# Altium schematic symbol library cp2130_f01_gm.SchLib: 1 symbol
Pins are listed as number, name and electrical type; pins without a type are passive.

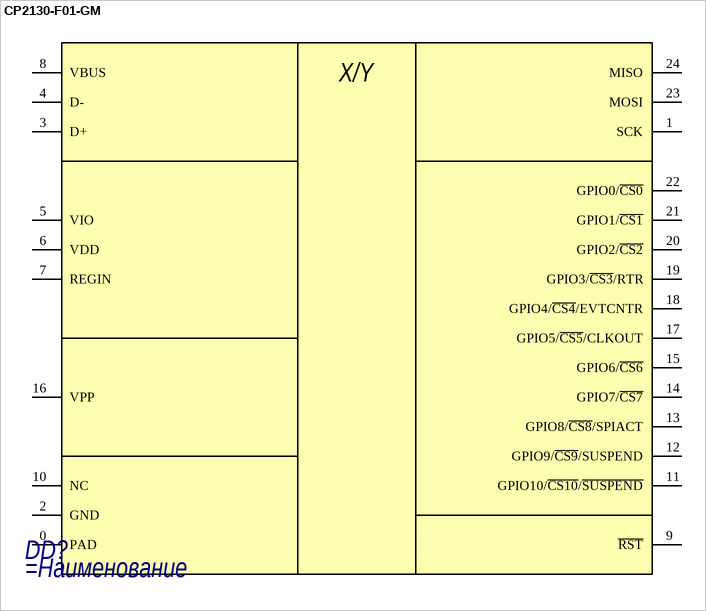
[diagram p0: symbol CP2130-F01-GM]

## CP2130-F01-GM
designator DD?
=Описание
pins: 0 PAD, 1 SCK, 2 GND, 3 D+, 4 D-, 5 VIO, 6 VDD, 7 REGIN, 8 VBUS, 9 ~{RST}, 10 NC, 11 GPIO10/~{CS10}/~{SUSPEND}, 12 GPIO9/~{CS9}/SUSPEND, 13 GPIO8/~{CS8}/SPIACT, 14 GPIO7/~{CS7}, 15 GPIO6/~{CS6}, 16 VPP, 17 GPIO5/~{CS5}/CLKOUT, 18 GPIO4/~{CS4}/EVTCNTR, 19 GPIO3/~{CS3}/RTR, 20 GPIO2/~{CS2}, 21 GPIO1/~{CS1}, 22 GPIO0/~{CS0}, 23 MOSI, 24 MISO
text: X/Y